# EAGLE library part PCF8523 (library pimoroni-ics)
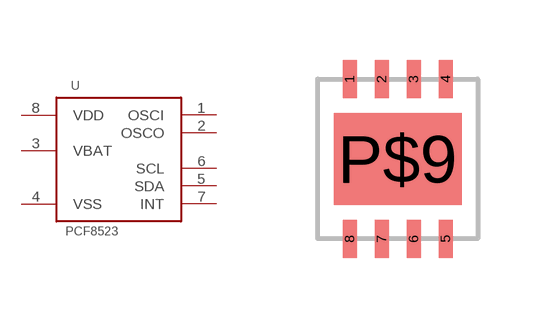
[diagram p72: symbol with the pads of HVSON-4X4-WEIRD-PIN-ORDER; footprint HVSON-4X4-WEIRD-PIN-ORDER]

Designator prefix U

## PCF8523TK  [HVSON-4X4-WEIRD-PIN-ORDER]
1  OSCI
2  OSCO
3  VBAT
4  VSS
5  SDA
6  SCL
7  INT
8  VDD

## Footprint HVSON-4X4-WEIRD-PIN-ORDER (pad centres in mm)
smd 0.35 x 0.95: 1 -1.2,2; 2 -0.4,2; 3 0.4,2; 4 1.2,2; 5 1.2,-2; 6 0.4,-2; 7 -0.4,-2; 8 -1.2,-2
smd 3.2 x 2.3: P$9 0,0